# Altium schematic symbol library Reza.SchLib: 30 symbols
Pins are listed as number, name and electrical type; pins without a type are passive.

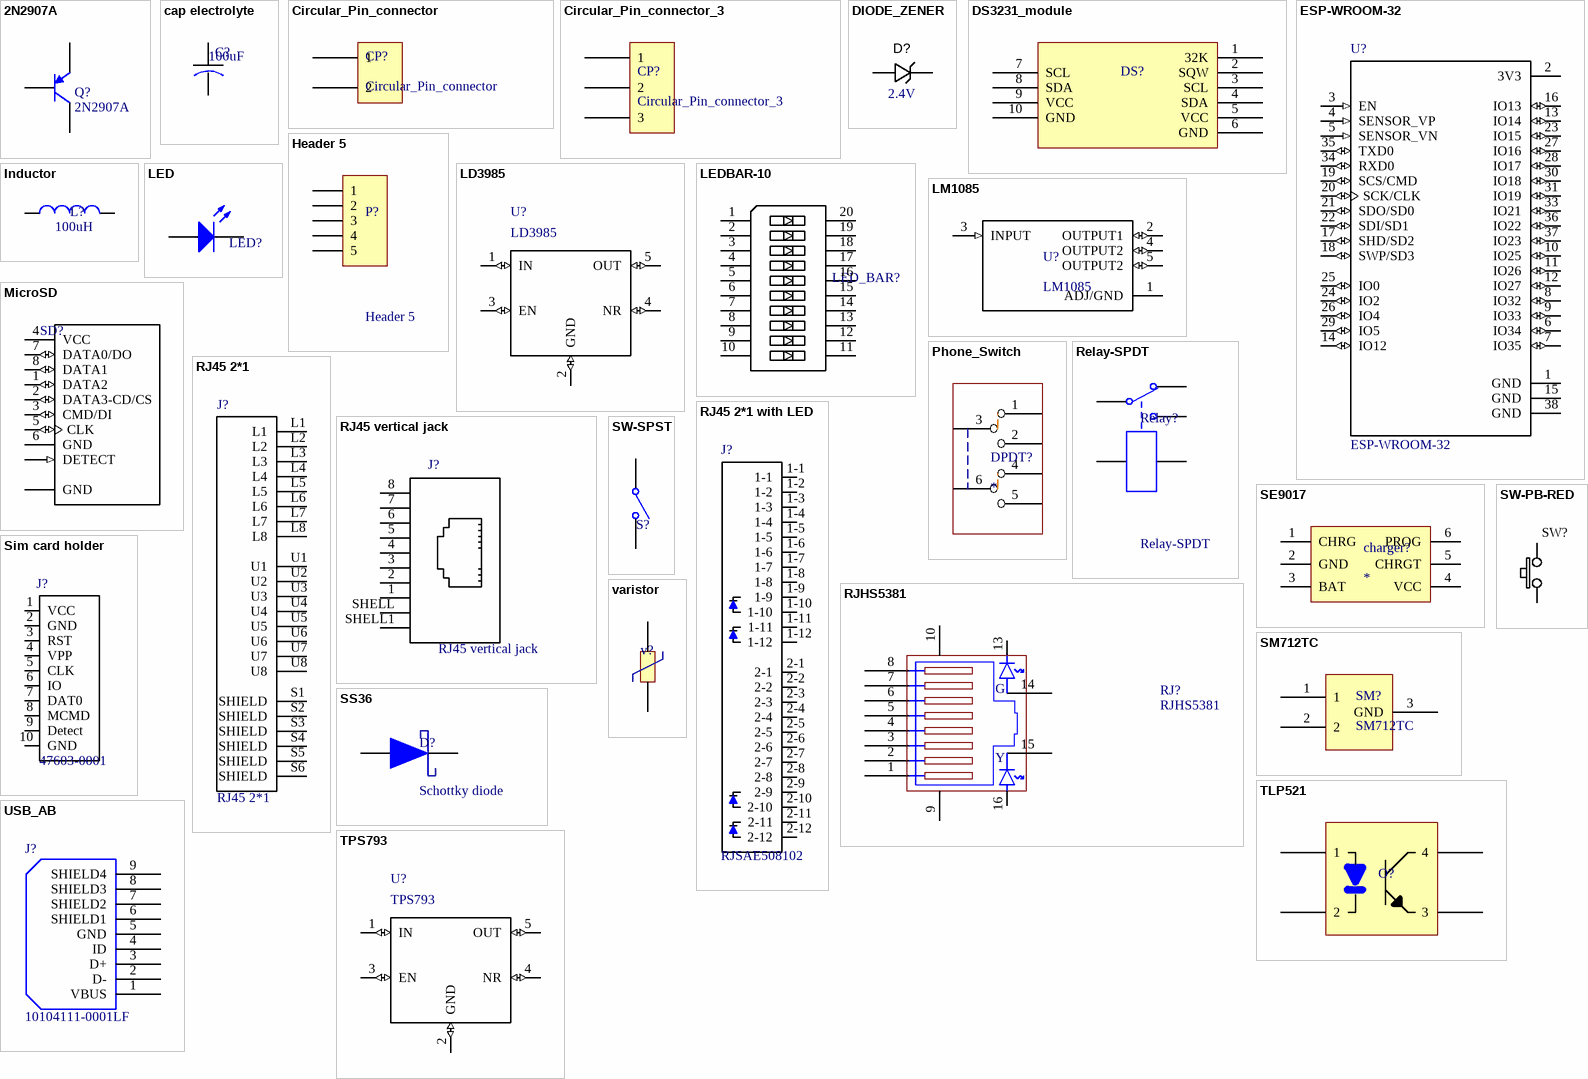
[diagram p0: symbols 2N2907A to varistor]

## 2N2907A
designator Q?
General Purpose Amplifier and Switch; Published: 8-Jun-2000; LatestRevisionDate: 11-Dec-2002; LatestRevisionNote: Sim Port Map correction; DatasheetVersion: Nov-1997; PackageReference: TO-18; Publisher: Altium Limited; PackageDescription: Can; 3 Leads; Pin Circle Dia. 2.54 mm; Lead Dia. 0.49 mm (max); ComponentLink1Description: Manufacturer Link; ComponentLink1URL: http://www.st.com/; ComponentLink2Description: Datasheet; ComponentLink2URL: http://www.st.com/stonline/products/literature/ds/9037/2n2905a.pdf
footprint SOT-23(-1)
pins: 1 C, 2 B, 3 E

## cap electrolyte
designator C?, comment value 100uF  (hidden comment: cap electrolyte (smd))
SVPC Series 16 V 100 uF Ã˜ 6.3 x 5.9 mm Surface Mount Polymer Aluminum Capacitor; MF: Panasonic; MP: 16SVPC100M; Availability: Good; SnapEDA_Link: https://www.snapeda.com/parts/16SVPC100M/Panasonic%20Electronic%20Components/view-part/?ref=snap; Price: 0.44 USD; Package: Radial Panasonic
footprint CAP_ELEC_SIZE_H13 (Capacitor, polarized, aluminum can; 12.5x13.5mm DxH)
footprint CAP_ELEC_SIZE_G (Capacitor, polarized, aluminum can; 10.0x10.2mm DxH)
footprint CAP_ELEC_SIZE_E&F (Capacitor, polarized, aluminum can; 8.0x6.2mm DxH)
footprint CAP_ELEC_SIZE_D
footprint CAP_ELEC_SIZE_C (Capacitor, polarized, aluminum can; 5x5.7mm DxH)
footprint CAP_ELEC_SIZE_B (Capacitor, polarized, aluminum can; 5x5.7mm DxH)
pins: 1, 2

## Circular_Pin_connector
designator CP?
footprint JP circular 2 (Circular Pin connector - 2Pin)
pins: 1, 2

## Circular_Pin_connector_3
designator CP?
footprint JP circular 3
pins: 1, 2, 3

## DIODE_ZENER
designator D?  range: 2.4V  (hidden comment: DIODE_ZENER)
Diode Zener SMD 3.3V 200mW SOD-323; Manufacturer 1: ON Semiconductor; Manufacturer Part Number 1: MM3Z3V3ST1G; Ratings: 3.3V; 0.2W; Vf=900mV @ 10mA; Material: Si; Tolerance: ±3%; SCDType: source; Package / Case: SOD-323; Diode Type: Zener; Supplier 1: Digi-Key; Supplier Part Number 1: MM3Z3V3ST1GOSCT-ND
footprint SOD323 (SOD-323; 2 Leads; Body 1.8 x 1.35 mm, (LxW))
footprint SOD323F (SOD-323; 2 Leads; Body 2.7 x 1.6 mm, (LxW))
pins: A, K

## DS3231_module
designator DS?, comment DS module  (value not drawn)
footprint DS3231_module
pins: 1 32K, 2 SQW, 3 SCL, 4 SDA, 5 VCC, 6 GND, 7 SCL, 8 SDA, 9 VCC, 10 GND

## ESP-WROOM-32
designator U?
Module: combo; GPIO, I2C x2, I2S x2, SDIO, SPI x3, UART x3; 19.5dBm; MF: Olimex LTD; Price: None; SnapEDA_Link: https://www.snapeda.com/parts/ESP-WROOM-32/Olimex%20LTD/view-part/?ref=snap; Availability: Unavailable; MP: ESP-WROOM-32; Package: Module Espressif Systems; Value: *
footprint MODULE_ESP-WROOM-32
pins: 1 GND (power), 2 3V3 (power), 3 EN (in), 4 SENSOR_VP (in), 5 SENSOR_VN (in), 6 IO34 (io), 7 IO35 (io), 8 IO32 (io), 9 IO33 (io), 10 IO25 (io), 11 IO26 (io), 12 IO27 (io), 13 IO14 (io), 14 IO12 (io), 15 GND (power), 16 IO13 (io), 17 SHD/SD2 (io), 18 SWP/SD3 (io), 19 SCS/CMD (io), 20 SCK/CLK (io), 21 SDO/SD0 (io), 22 SDI/SD1 (io), 23 IO15 (io), 24 IO2 (io), 25 IO0 (io), 26 IO4 (io), 27 IO16 (io), 28 IO17 (io), 29 IO5 (io), 30 IO18 (io), 31 IO19 (io), 33 IO21 (io), 34 RXD0 (io), 35 TXD0 (io), 36 IO22 (io), 37 IO23 (io), 38 GND (power)

## Header 5
designator P?
Header, 5-Pin; LatestRevisionDate: 17-Jul-2002; LatestRevisionNote: Re-released for DXP Platform.; Publisher: Altium Limited
footprint JP circular 5
pins: 1, 2, 3, 4, 5

## Inductor
designator L?  value 100uH  (hidden comment: Inductor)
Code_IEC: 1005; Published: 8-Jun-2000; LatestRevisionDate: 17-Jul-2002; LatestRevisionNote: Re-released for DXP Platform.; PackageReference: 0402-A; Publisher: Altium Limited; Code_JEITA: 0402
footprint RH127 (RH127 inductor 12*12*7 (100uH))
footprint CD75 (smd inductor CD75)
pins: 1, 2

## LD3985
designator U?
Ultra low drop and low noise BiCMOS voltage regulators; MF: Texas Instruments; MP: TPS73633DBVR; SnapEDA_Link: https://www.snapeda.com/parts/TPS73633DBVR/Texas%20Instruments/view-part/?ref=snap; Price: 1.20 USD; Package: SOT-23 Texas Instruments; Availability: Good; Value: *
footprint SOT23-5
pins: 1 IN (io), 2 GND (io), 3 EN (io), 4 NR (io), 5 OUT (io)

## LED
designator LED?  (value not drawn)
Typical INFRARED GaAs LED; Published: 8-Jun-2000; LatestRevisionDate: 08-Jul-2005; LatestRevisionNote: Mech Layer 1 removed.; PackageReference: LED-0; Publisher: Altium Limited
footprint LED5MM
footprint 0805 (Chip Resistor, Body 2.0x1.2mm, IPC High Density)
pins: 1 A, 2 K

## LEDBAR-10
designator LED_BAR?  (value not drawn)
Supplier 1: Mouser; Supplier Part Number 1: 604-DC10GWA
footprint LEDBAR-10
pins: 1, 2, 3, 4, 5, 6, 7, 8, 9, 10, 11, 12, 13, 14, 15, 16, 17, 18, 19, 20

## LM1085
designator U?
3A Low Dropout Positive Regulators
footprint TO-263AB
pins: 1 ADJ/GND, 2 OUTPUT1 (io), 3 INPUT (in), 4 OUTPUT2 (io), 5 OUTPUT2 (io)

## MicroSD
designator SD?  (value not drawn)
footprint MicroSD
pins: 1 DATA2 (io), 2 DATA3-CD/CS (io), 3 CMD/DI (io), 4 VCC (power), 5 CLK (io), 6 GND (power), 7 DATA0/DO (io), 8 DATA1 (io), DETECT (in), GND (power)

## Phone_Switch
designator DPDT?
footprint PHONE_DPDT (Switch of phone from type of DPDT)
pins: 1, 2, 3, 4, 5, 6

## Relay-SPDT
designator Relay?
Single-Pole Dual-Throw Relay; Published: 24-Mar-1999; LatestRevisionDate: 17-Jul-2002; LatestRevisionNote: Re-released for DXP Platform.; PackageReference: MODULE5B; Publisher: Altium Limited
footprint REL-6AS
pins: B1, B2, COM, NC, NO

## RJ45 2*1
designator J?
Conn RJ-45 F 16 POS 2.54mm Solder RA Thru-Hole 16 Terminal 2 Port Automotive Cat 5 Tray; MP: 5569381-1; MF: TE Connectivity; Package: None; EU_RoHS_Compliance: Compliant; Price: 8.15 USD; Link: http://www.te.com/usa-en/product-5569381-1.html; Availability: Good; SnapEDA_Link: https://www.snapeda.com/parts/5569381-1/TE%20Connectivity%20AMP%20Connectors/view-part/?ref=snap; Value: *
footprint rj45 2*1 (without LED)
pins: L1, L2, L3, L4, L5, L6, L7, L8, S1 SHIELD, S2 SHIELD, S3 SHIELD, S4 SHIELD, S5 SHIELD, S6 SHIELD, U1, U2, U3, U4, U5, U6, U7, U8

## RJ45 2*1 with LED
designator J?, comment RJSAE508102
Conn RJ-45 F 16 POS 2.54mm Solder RA Thru-Hole 24 Terminal 2 Port Cat 5; MF: Amphenol Commercial; SnapEDA_Link: https://www.snapeda.com/parts/RJSAE508102/Amphenol%20Commercial%20Products/view-part/?ref=snap; Price: 3.31 USD; Availability: Unavailable; MP: RJSAE508102; Package: None; Value: *
footprint RJ45 2*1 with LED
pins: 1-1, 1-2, 1-3, 1-4, 1-5, 1-6, 1-7, 1-8, 1-9, 1-10, 1-11, 1-12, 2-1, 2-2, 2-3, 2-4, 2-5, 2-6, 2-7, 2-8, 2-9, 2-10, 2-11, 2-12

## RJ45 vertical jack
designator J?
Mod jack RJ45 vertical 1x1 rear post; MF: Wurth Electronics; MP: 615008140421; Package: None; Price: 2.51 USD; SnapEDA_Link: https://www.snapeda.com/parts/615008140421/Wurth%20Electronics%20Inc/view-part/?ref=snap; Availability: Good; Value: *
footprint RJ45 vertical
pins: 1, 2, 3, 4, 5, 6, 7, 8, SHELL SHIELD, SHELL1 SHIELD

## RJHS5381
designator RJ?
Connector, RJ45 with Leds, (Ethernet), Thru-Hole
footprint RJHS5381
footprint RJHS5381
pins: 1, 2, 3, 4, 5, 6, 7, 8, 9, 10, 13, 14, 15, 16
text: G; Y

## SE9017
designator charger?
Standalone Linear Lithium Battery Charger
footprint SOT23-6
pins: 1 CHRG, 2 GND, 3 BAT, 4 VCC, 5 CHRGT, 6 PROG

## Sim card holder
designator J?, comment 47603-0001
1.27mm Pitch SIM Card Holder with 2 Detect Pins, 8 Circuits, Push-Push Style, Housing Height 1.90mm, without Pegs, Le...; MF: Molex; MP: 47603-0001; Price: 1.76 USD; Availability: Good; Package: None; SnapEDA_Link: https://www.snapeda.com/parts/47603-0001/Molex/view-part/?ref=snap; Value: *
footprint MOLEX_47603-0001
pins: 1 VCC, 2 GND, 3 RST, 4 VPP, 5 CLK, 6 IO, 7 DAT0, 8 MCMD, 9 Detect, 10 GND

## SM712TC
designator SM?
Asymmetrical Transient Voltage Suppressors Diode ; Bidirectional , 12V
footprint SOT-23(-3)
pins: 1, 2, 3 GND

## SS36
designator D?, comment Schottky diode
Surface Mount Schottky Barrier Rectifier; Revision 1: 11-Jul-2000: SIM Model Added.; Revision 2: 17-Jul-2002: Re-released for DXP Platform.; Package Information: Latest Revision: Aug-1999; Code - JEDEC: DO-204-AL; Published: 8-Jun-2000; Datasheet: Latest Revision: 1998; Package Reference: DO-41; Publisher: Altium Limited
footprint DO-214AB (DO-214AB(SMC))
pins: 1 A, 2 K

## SW-PB-RED
designator SW?, comment SW  (value not drawn)
SW-D6-R / SW-DS-S / SW-14X14 / SW-7X7
footprint KEY-11
pins: 1, 2

## SW-SPST
designator S?  (value not drawn)
Single-Pole, Single-Throw Switch; Published: 24-Mar-1999; Revision: July-2002: Re-released for DXP Platform.; Publisher: Altium Limited
footprint RA HD2 (Header 2 for switch)
footprint HD2 (Header 2 for switch)
pins: 1 COMMON, 2 NO

## TLP521
designator O?, comment EL817  (value not drawn)
footprint opto_smd (DIP; 4 Leads; Row Spacing 7.62 mm; Pitch 2.54 mm)
pins: 1, 2, 3, 4

## TPS793
designator U?
Single Output LDO, 400mA, Adj._1.2 to 5.5V_, Cap free, Low A Low-Dropout Linear Regulators; MF: Texas Instruments; MP: TPS73633DBVR; SnapEDA_Link: https://www.snapeda.com/parts/TPS73633DBVR/Texas%20Instruments/view-part/?ref=snap; Price: 1.20 USD; Package: SOT-23 Texas Instruments; Availability: Good; Value: *
footprint SOT23-5
pins: 1 IN (io), 2 GND (io), 3 EN (io), 4 NR (io), 5 OUT (io)

## USB_AB
designator J?  value 10104111-0001LF  (hidden comment: USB_AB)
Micro USB AB Connector; PartGroup: Mechanical devices,Connectors,USB; Manufacturer: FCI; AN: A08-1368; Height: 2.59999990463257; MPN: 10104111-0001LF
footprint Micro-USB-Strong
pins: 1 VBUS, 2 D-, 3 D+, 4 ID, 5 GND, 6 SHIELD1, 7 SHIELD2, 8 SHIELD3, 9 SHIELD4

## varistor
designator v?, comment ZOV-07D181K  (value not drawn)
footprint varistor_footprint (2 pin 8.5mm dist between two 1mm hole pin)
pins: 1, 2